# Altium footprint library CR2032_BAT.PcbLib: 1 footprints
Each footprint in its own frame and in the unit in brackets; x right, y up, seen from the top. Pads: shape width x height; smd on the part's side, far side on the other; paste and mask are expansions set on the pad; w line width, h text height; cw(c..) or ccw(c..) is an arc to the next point about the centre after c.
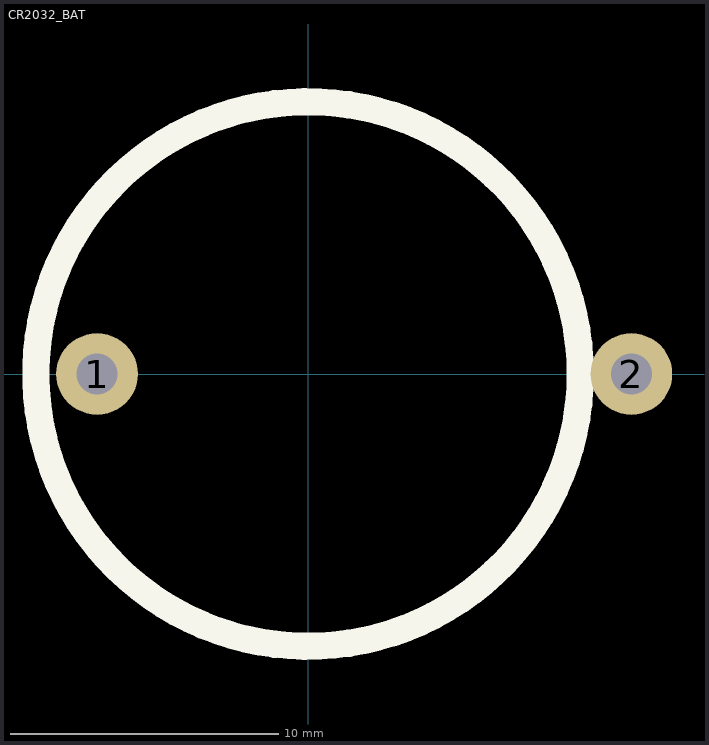
[diagram p0: the footprint, top view; thin cyan lines are the x and y axes]

## CR2032_BAT [mil]
pads (2):
  round 120 hole 60: 1(-310,0) 2(475,0)
Top Overlay:
  circle w40: c0,0 r400
3D body "2032 Horizontal.STEP": height 350.39, standoff -137.8, extent -431.69,-435 525,439.02